# Altium schematic symbol library LMR16020PDDAR.Schlib: 1 symbol
Pins are listed as number, name and electrical type; pins without a type are passive.

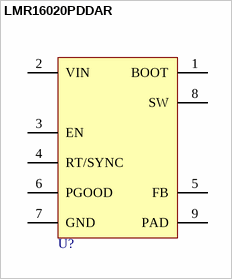
[diagram p0: symbol LMR16020PDDAR]

## LMR16020PDDAR
designator U?
60V input, 2Amp Switching Voltage Regulator
pins: 1 BOOT, 2 VIN, 3 EN, 4 RT/SYNC, 5 FB, 6 PGOOD, 7 GND, 8 SW, 9 PAD